# EAGLE library part 3PDT (library switches)
Mountain Switch 108-1M31T1B1M1QE-EVX https://www.mouser.com/ProductDetail/Mountain-Switch/108-1M31T1B1M1QE-EVX?qs=sGAEpiMZZMvudeGI7i40XO%252BnGhp8Hy%252BJe46O%2FBjy5XE%3D
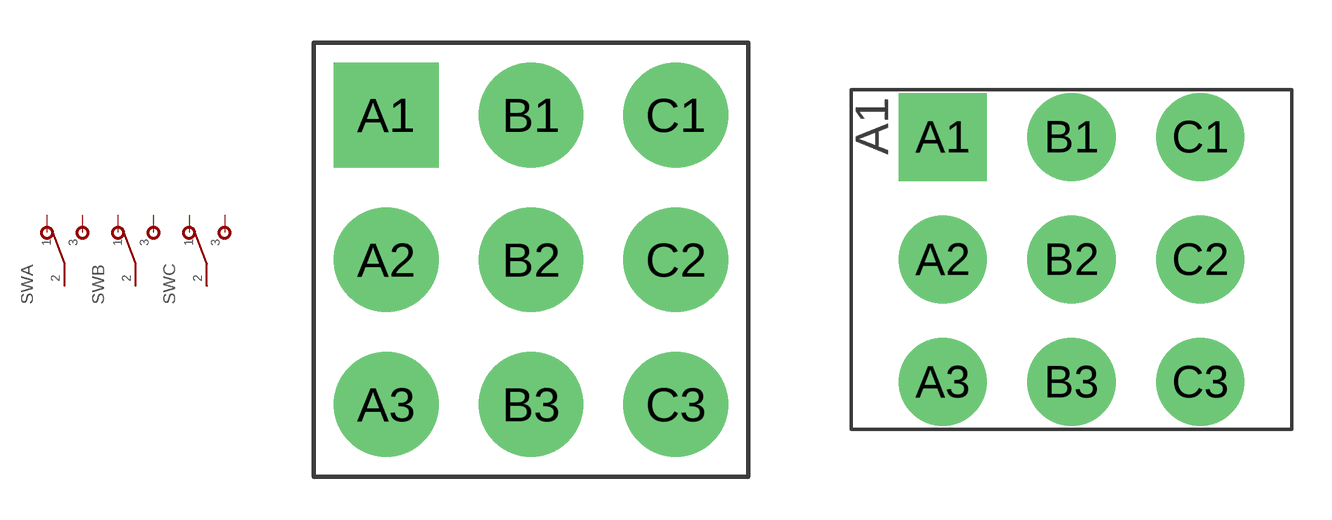
[diagram p0: symbol with the pads of 3PDT; footprints 3PDT, 3PDT_T]

Designator prefix SW; gates A=SPDT B=SPDT C=SPDT

## 3PDT  [3PDT]
A1  A:1  pas
A2  A:2  pas
A3  A:3  pas
B1  B:1  pas
B2  B:2  pas
B3  B:3  pas
C1  C:1  pas
C2  C:2  pas
C3  C:3  pas

## 3PDTMT108  [3PDT_T]
Pads as for 3PDT

## Footprint 3PDT (pad centres in mm)
drill 2.667 square: A1 -5.08,5.08
drill 2.667: A2 -5.08,0; A3 -5.08,-5.08; B1 0,5.08; B2 0,0; B3 0,-5.08; C1 5.08,5.08; C2 5.08,0; C3 5.08,-5.08

## Footprint 3PDT_T (pad centres in mm)
drill 2.2 pad 3.302 square: A1 -4.83,4.6
drill 2.2 pad 3.302: A2 -4.83,0; A3 -4.83,-4.6; B1 0,4.6; B2 0,0; B3 0,-4.6; C1 4.83,4.6; C2 4.83,0; C3 4.83,-4.6